# EAGLE library part S25FL256SAGMFNG00 (library cypress)
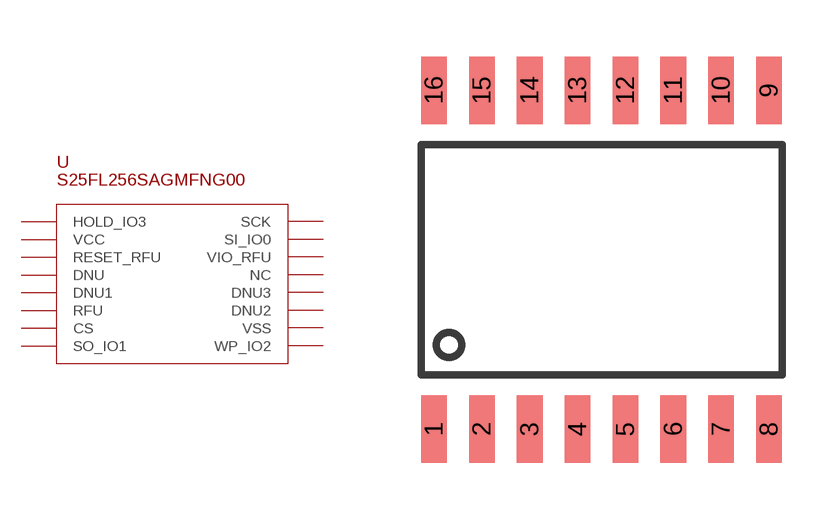
[diagram p24: symbol with the pads of S25FL256SAGMFNG00; footprint S25FL256SAGMFNG00]

Designator prefix U

## S25FL256SAGMFNG00  [S25FL256SAGMFNG00]
1  HOLD_IO3
2  VCC
3  RESET_RFU
4  DNU
5  DNU1
6  RFU
7  CS
8  SO_IO1
9  WP_IO2
10  VSS
11  DNU2
12  DNU3
13  NC
14  VIO_RFU
15  SI_IO0
16  SCK

## Footprint S25FL256SAGMFNG00 (pad centres in mm)
smd 0.68 x 1.8: 1 -4.445,-4.5; 2 -3.175,-4.5; 3 -1.905,-4.5; 4 -0.635,-4.5; 5 0.635,-4.5; 6 1.905,-4.5; 7 3.175,-4.5; 8 4.445,-4.5; 9 4.445,4.5; 10 3.175,4.5; 11 1.905,4.5; 12 0.635,4.5; 13 -0.635,4.5; 14 -1.905,4.5; 15 -3.175,4.5; 16 -4.445,4.5